# Altium schematic symbol library HDR2x3.SchLib: 1 symbol
Pins are listed as number, name and electrical type; pins without a type are passive.

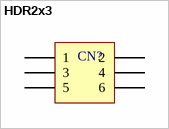
[diagram p0: symbol HDR2x3]

## HDR2x3
designator CN?
pins: 1, 2, 3, 4, 5, 6